# EAGLE library part DRV8830 (library balto)
Low voltage motor driver with serial interface
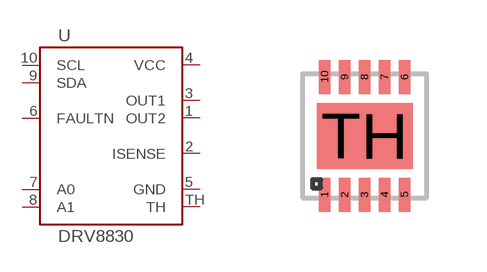
[diagram p42: symbol with the pads of 10SON; footprint 10SON]

Designator prefix U

## DRV8830  [10SON]
1  OUT2
2  ISENSE
3  OUT1
4  VCC
5  GND
6  FAULTN
7  A0
8  A1
9  SDA
10  SCL
TH  TH

## Footprint 10SON (pad centres in mm)
smd 0.28 x 0.85: 1 -1,-1.475; 2 -0.5,-1.475; 3 0,-1.475; 4 0.5,-1.475; 5 1,-1.475; 6 1,1.475; 7 0.5,1.475; 8 0,1.475; 9 -0.5,1.475; 10 -1,1.475
smd 2.4 x 1.65: TH 0,0